# Altium footprint library Crystal.PcbLib: 1 footprints
Each footprint in its own frame and in the unit in brackets; x right, y up, seen from the top. Pads: shape width x height; smd on the part's side, far side on the other; paste and mask are expansions set on the pad; w line width, h text height; cw(c..) or ccw(c..) is an arc to the next point about the centre after c.
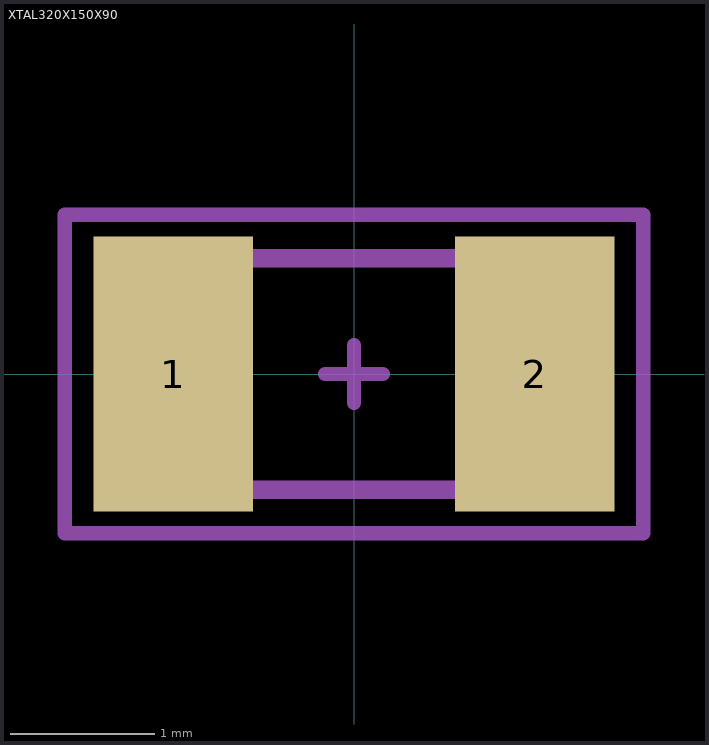
[diagram p0: the footprint, top view; thin cyan lines are the x and y axes]

## XTAL320X150X90 [mm] "XTAL320X150X90"
height 0.9
pads (2):
  rect 1.1x1.9 smd paste+0 mask+0: 1(-1.25,0) 2(1.25,0)
Mechanical 6:
  text "'.Designator'" at -1.475,-0.4 h0.8
Mechanical 8:
  lines w0.1: -1.65,0.375 -1.25,0.8
  lines w0.127: -1.65,-0.8 -1.65,0.8 1.65,0.8 1.65,-0.8 -1.65,-0.8
Mechanical 15:
  lines w0.1: -0.2,0 0,0 ; 0,-0.2 0,0 ; 0,0.2 0,0 ; 0.2,0 0,0 ; -2,-1.1 -2,1.1 2,1.1 2,-1.1 -2,-1.1
3D body "ABS07.STEP": height 0.89, standoff 0, extent -1.6,-0.749 1.6,0.749